# EAGLE library part PIN_HEADER_8 (library icmi-connectors)
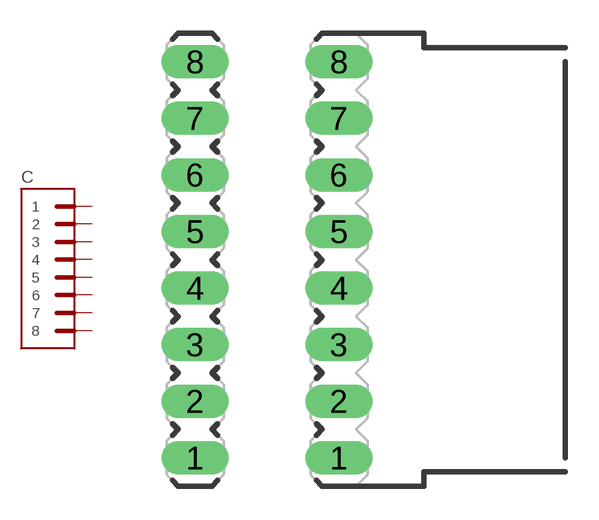
[diagram p1: symbol with the pads of BREAKAWAY_STRAIGHT_8_WIDE; footprints BREAKAWAY_STRAIGHT_8_WIDE, BREAKAWAY_ANGLED_8_WIDE]

Designator prefix C

## PIN_HEADER_8-WIDE  [BREAKAWAY_STRAIGHT_8_WIDE]
1  1
2  2
3  3
4  4
5  5
6  6
7  7
8  8

## PIN_HEADER_8-ANGLED-WIDE  [BREAKAWAY_ANGLED_8_WIDE]
Pads as for BREAKAWAY_STRAIGHT_8_WIDE

## PIN_HEADER_8-SCREW-TERMINAL  [TERMINAL_BLOCK_8]
P$1  1
P$2  2
P$3  3
P$4  4
P$5  5
P$6  6
P$7  7
P$8  8

## Footprint BREAKAWAY_STRAIGHT_8_WIDE (pad centres in mm)
drill 1 long: 1 0,-8.89; 2 0,-6.35; 3 0,-3.81; 4 0,-1.27; 5 0,1.27; 6 0,3.81; 7 0,6.35; 8 0,8.89

## Footprint BREAKAWAY_ANGLED_8_WIDE (pad centres in mm)
drill 1 long: 1 -2.54,-8.89; 2 -2.54,-6.35; 3 -2.54,-3.81; 4 -2.54,-1.27; 5 -2.54,1.27; 6 -2.54,3.81; 7 -2.54,6.35; 8 -2.54,8.89

## Footprint TERMINAL_BLOCK_8 (pad centres in mm)
Screw type terminal block, 8 contacts, 5mm pitch
drill 1 pad 2 long: P$1 -17.5,0; P$2 -12.5,0; P$3 -7.5,0; P$4 -2.5,0; P$5 2.5,0; P$6 7.5,0; P$7 12.5,0; P$8 17.5,0